# EAGLE library part ST-LPS33HW (library FaBo-Environment)
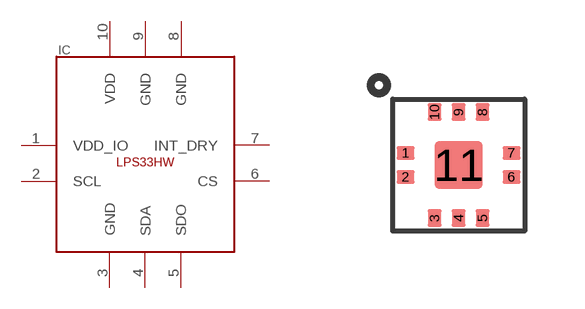
[diagram p19: symbol with the pads of ST-LPS33HW; footprint ST-LPS33HW]

Designator prefix IC

## ST-LPS33HW  [ST-LPS33HW]
1  VDD_IO
2  SCL
3  GND
4  SDA
5  SDO
6  CS
7  INT_DRY
8  GND
9  GND
10  VDD

## Footprint ST-LPS33HW (pad centres in mm)
smd 0.45 x 0.35: 1 -1.325,0.3; 2 -1.325,-0.3; 6 1.325,-0.3; 7 1.325,0.3
smd 0.35 x 0.45: 3 -0.6,-1.325; 4 0,-1.325; 5 0.6,-1.325; 8 0.6,1.325; 9 0,1.325; 10 -0.6,1.325
smd 1.2 x 1.2: 11 0,0